# EAGLE library part MAX4081SASA+ (library simple-power-monitor)
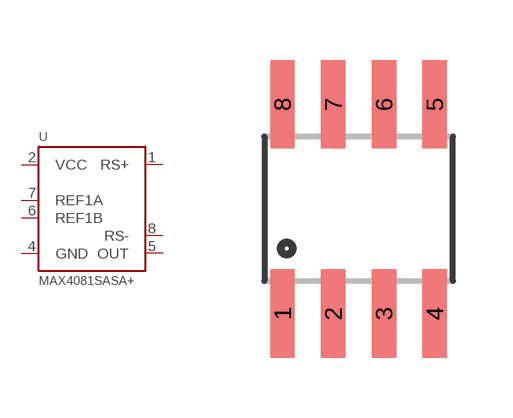
[diagram p0: symbol with the pads of SO8; footprint SO8]

Designator prefix -

## MAX4081SASA+  [SO8]
1  RS+
2  VCC
4  GND
5  OUT
6  REF1B
7  REF1A
8  RS-

## Footprint SO8 (pad centres in mm)
smd 0.61 x 2.21: 1 -1.905,-2.616; 2 -0.635,-2.616; 3 0.635,-2.616; 4 1.905,-2.616; 5 1.905,2.616; 6 0.635,2.616; 7 -0.635,2.616; 8 -1.905,2.616